# EAGLE library part A3930 (library rc13)
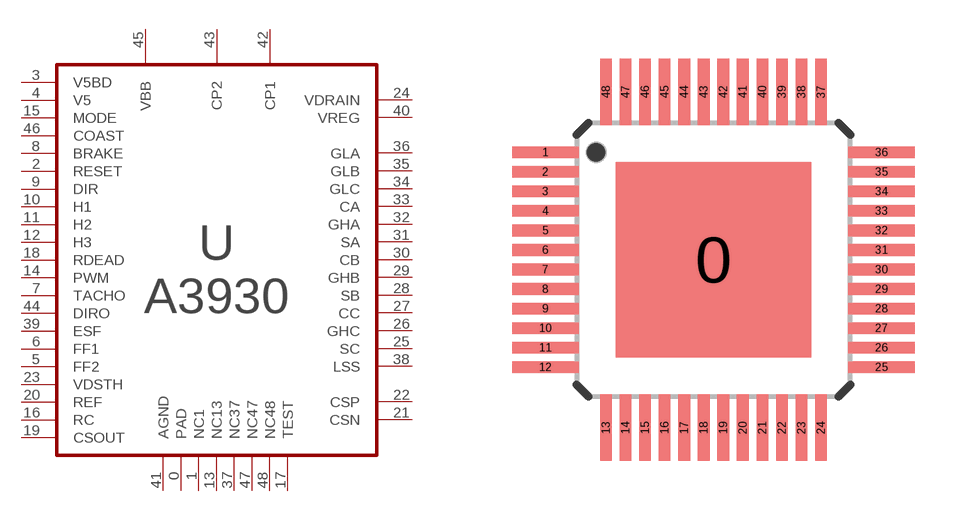
[diagram p0: symbol with the pads of LQFP-48; footprint LQFP-48]

Designator prefix -

## A3930  [LQFP-48]
0  PAD
1  NC1  nc
2  RESET
3  V5BD
4  V5
5  FF2
6  FF1
7  TACHO
8  BRAKE
9  DIR
10  H1
11  H2
12  H3
13  NC13  nc
14  PWM
15  MODE
16  RC
17  TEST
18  RDEAD
19  CSOUT
20  REF
21  CSN
22  CSP
23  VDSTH
24  VDRAIN
25  SC
26  GHC
27  CC
28  SB
29  GHB
30  CB
31  SA
32  GHA
33  CA
34  GLC
35  GLB
36  GLA
37  NC37  nc
38  LSS
39  ESF
40  VREG
41  AGND
42  CP1
43  CP2
44  DIRO
45  VBB
46  COAST
47  NC47  nc
48  NC48  nc

## Footprint LQFP-48 (pad centres in mm)
smd 5 x 5: 0 0,0
smd 1.7 x 0.3: 1 -4.3,2.75; 2 -4.3,2.25; 3 -4.3,1.75; 4 -4.3,1.25; 5 -4.3,0.75; 6 -4.3,0.25; 7 -4.3,-0.25; 8 -4.3,-0.75; 9 -4.3,-1.25; 10 -4.3,-1.75; 11 -4.3,-2.25; 12 -4.3,-2.75; 25 4.3,-2.75; 26 4.3,-2.25; 27 4.3,-1.75; 28 4.3,-1.25; 29 4.3,-0.75; 30 4.3,-0.25; 31 4.3,0.25; 32 4.3,0.75; 33 4.3,1.25; 34 4.3,1.75; 35 4.3,2.25; 36 4.3,2.75
smd 0.3 x 1.7: 13 -2.75,-4.3; 14 -2.25,-4.3; 15 -1.75,-4.3; 16 -1.25,-4.3; 17 -0.75,-4.3; 18 -0.25,-4.3; 19 0.25,-4.3; 20 0.75,-4.3; 21 1.25,-4.3; 22 1.75,-4.3; 23 2.25,-4.3; 24 2.75,-4.3; 37 2.75,4.3; 38 2.25,4.3; 39 1.75,4.3; 40 1.25,4.3; 41 0.75,4.3; 42 0.25,4.3; 43 -0.25,4.3; 44 -0.75,4.3; 45 -1.25,4.3; 46 -1.75,4.3; 47 -2.25,4.3; 48 -2.75,4.3